# Altium footprint library MOTHERBOARD.PcbLib: 73 footprints (part 4 of 5)
Each footprint in its own frame and in the unit in brackets; x right, y up, seen from the top. Pads: shape width x height; smd on the part's side, far side on the other; paste and mask are expansions set on the pad; w line width, h text height; cw(c..) or ccw(c..) is an arc to the next point about the centre after c.
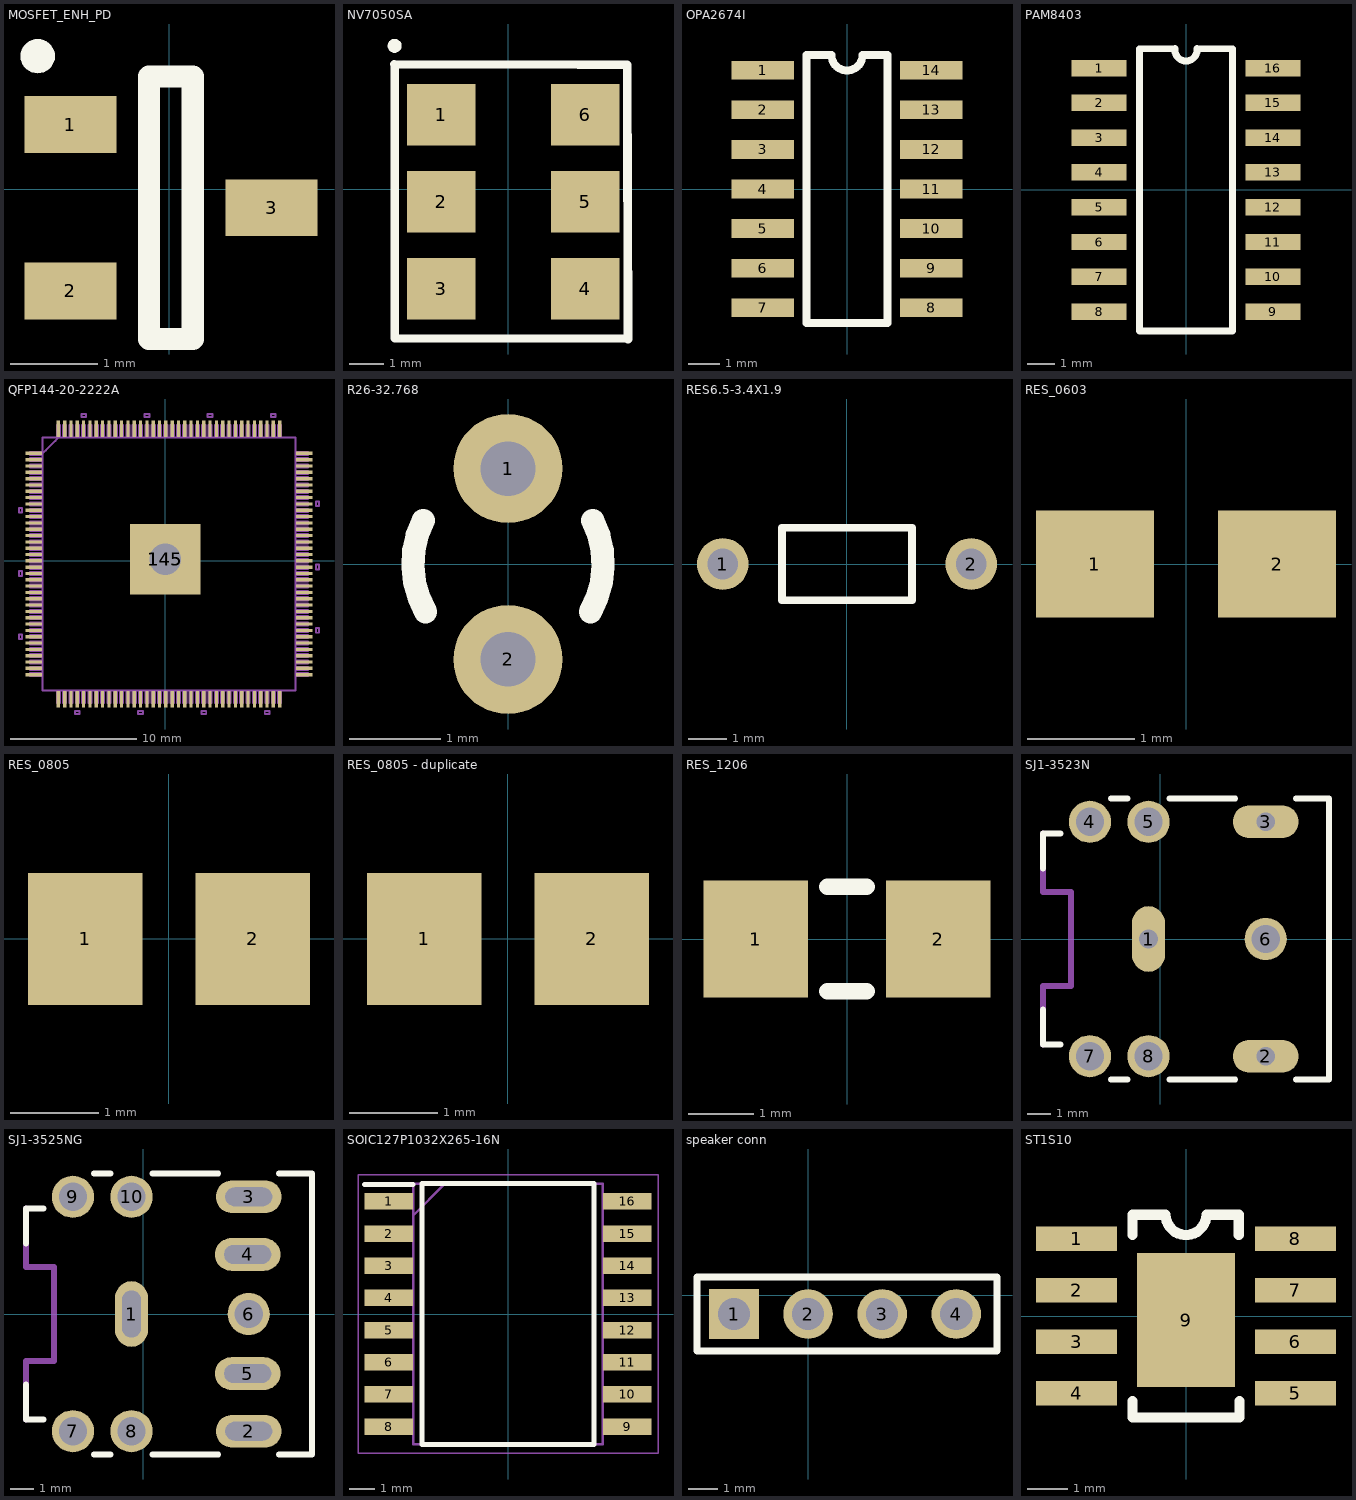
[diagram p3: the footprints below, top view; thin cyan lines are the x and y axes]

## MOSFET_ENH_PD [mm]
pads (3):
  rect 1.05x0.65 smd: 1(-1.128,0.735) 2(-1.128,-1.165) 3(1.172,-0.215)
Top Overlay:
  region: -1.305,1.519 -1.308,1.553 -1.317,1.586 -1.332,1.617 -1.351,1.645 -1.375,1.669 -1.403,1.688 -1.434,1.703 -1.467,1.712 -1.501,1.715 -1.535,1.712 -1.568,1.703 -1.599,1.688 -1.627,1.669 -1.651,1.645 -1.671,1.617 -1.685,1.586 -1.694,1.553 -1.697,1.519 -1.694,1.485 -1.685,1.452 -1.671,1.421 -1.651,1.393 -1.627,1.369 -1.599,1.349 -1.568,1.335 -1.535,1.326 -1.501,1.323 -1.467,1.326 -1.434,1.335 -1.403,1.349 -1.375,1.369 -1.351,1.393 -1.332,1.421 -1.317,1.452 -1.308,1.485
  lines w0.254: -0.228,-1.715 -0.228,1.285 0.272,1.285 0.272,-1.715 -0.228,-1.715

## NV7050SA [mm]
pads (6):
  rect 2x1.8 smd: 1(-1.948,2.17) 2(-1.948,-0.37) 3(-1.948,-2.91) 4(2.252,-2.91) 5(2.252,-0.37) 6(2.252,2.17)
Top Overlay:
  region: -3.112,4.18 -3.115,4.215 -3.124,4.248 -3.139,4.28 -3.159,4.309 -3.183,4.333 -3.212,4.353 -3.244,4.368 -3.277,4.377 -3.312,4.38 -3.347,4.377 -3.381,4.368 -3.412,4.353 -3.441,4.333 -3.465,4.309 -3.485,4.28 -3.5,4.248 -3.509,4.215 -3.512,4.18 -3.509,4.145 -3.5,4.111 -3.485,4.08 -3.465,4.051 -3.441,4.026 -3.412,4.006 -3.381,3.992 -3.347,3.983 -3.312,3.98 -3.277,3.983 -3.244,3.992 -3.212,4.006 -3.183,4.026 -3.159,4.051 -3.139,4.08 -3.124,4.111 -3.115,4.145
  lines w0.254: -3.318,3.64 2.055,3.63 3.482,3.63 ; -3.308,-4.33 -3.308,3.62 ; -3.297,-4.36 3.512,-4.37 ; 3.482,3.61 3.502,-4.38

## OPA2674I [mm]
pads (14):
  rect 2x0.6 smd: 1(-2.7,3.81) 2(-2.7,2.54) 3(-2.7,1.27) 4(-2.7,0) 5(-2.7,-1.27) 6(-2.7,-2.54) 7(-2.7,-3.81) 8(2.7,-3.81) 9(2.7,-2.54) 10(2.7,-1.27) 11(2.7,0) 12(2.7,1.27) 13(2.7,2.54) 14(2.7,3.81)
Top Overlay:
  lines w0.254: -1.3,-4.3 -1.3,4.3 -0.5,4.3 ccw(c0,4.3) 0.5,4.3 1.3,4.3 1.3,-4.3 -1.3,-4.3

## PAM8403 [mm]
pads (16):
  rect 2x0.6 smd: 1(-3.175,4.445) 2(-3.175,3.175) 3(-3.175,1.905) 4(-3.175,0.635) 5(-3.175,-0.635) 6(-3.175,-1.905) 7(-3.175,-3.175) 8(-3.175,-4.445) 9(3.175,-4.445) 10(3.175,-3.175) 11(3.175,-1.905) 12(3.175,-0.635) 13(3.175,0.635) 14(3.175,1.905) 15(3.175,3.175) 16(3.175,4.445)
Top Overlay:
  lines w0.254: -0.4,5.15 -1.7,5.15 -1.7,-5.15 1.7,-5.15 1.7,5.15 0.4,5.15 ; -0.4,5.152 ccw(c0,5.103) 0.4,5.152

## QFP144-20-2222A [mil]
pads (146):
  rect 52x10 smd: 1(-409.45,334.64) 2(-409.45,314.96) 3(-409.45,295.27) 4(-409.45,275.59) 5(-409.45,255.9) 6(-409.45,236.22) 7(-409.45,216.53) 8(-409.45,196.85) 9(-409.45,177.16) 10(-409.45,157.48) 11(-409.45,137.8) 12(-409.45,118.11) 13(-409.45,98.43) 14(-409.45,78.74) 15(-409.45,59.06) 16(-409.45,39.37) 17(-409.45,19.69) 18(-409.45,0) 19(-409.45,-19.68) 20(-409.45,-39.37) 21(-409.45,-59.06) 22(-409.45,-78.74) 23(-409.45,-98.43) 24(-409.45,-118.11) 25(-409.45,-137.8) 26(-409.45,-157.48) 27(-409.45,-177.17) 28(-409.45,-196.85) 29(-409.45,-216.54) 30(-409.45,-236.22) 31(-409.45,-255.91) 32(-409.45,-275.59) 33(-409.45,-295.28) 34(-409.45,-314.96) 35(-409.45,-334.65) 36(-409.45,-354.33) 73(433.07,-354.33) 74(433.07,-334.65) 75(433.07,-314.96) 76(433.07,-295.28) 77(433.07,-275.59) 78(433.07,-255.91) 79(433.07,-236.22) 80(433.07,-216.54) 81(433.07,-196.85) 82(433.07,-177.17) 83(433.07,-157.48) 84(433.07,-137.8) 85(433.07,-118.11) 86(433.07,-98.43) 87(433.07,-78.74) 88(433.07,-59.06) 89(433.07,-39.37) 90(433.07,-19.68) 91(433.07,0) 92(433.07,19.69) 93(433.07,39.37) 94(433.07,59.06) 95(433.07,78.74) 96(433.07,98.43) 97(433.07,118.11) 98(433.07,137.8) 99(433.07,157.48) 100(433.07,177.16) 101(433.07,196.85) 102(433.07,216.53) 103(433.07,236.22) 104(433.07,255.9) 105(433.07,275.59) 106(433.07,295.27) 107(433.07,314.96) 108(433.07,334.64)
  rect 10x52 smd: 37(-332.68,-431.1) 38(-312.99,-431.1) 39(-293.31,-431.1) 40(-273.62,-431.1) 41(-253.94,-431.1) 42(-234.25,-431.1) 43(-214.57,-431.1) 44(-194.88,-431.1) 45(-175.2,-431.1) 46(-155.51,-431.1) 47(-135.83,-431.1) 48(-116.14,-431.1) 49(-96.46,-431.1) 50(-76.77,-431.1) 51(-57.09,-431.1) 52(-37.4,-431.1) 53(-17.72,-431.1) 54(1.97,-431.1) 55(21.65,-431.1) 56(41.34,-431.1) 57(61.02,-431.1) 58(80.71,-431.1) 59(100.39,-431.1) 60(120.08,-431.1) 61(139.76,-431.1) 62(159.45,-431.1) 63(179.13,-431.1) 64(198.82,-431.1) 65(218.5,-431.1) 66(238.19,-431.1) 67(257.87,-431.1) 68(277.56,-431.1) 69(297.24,-431.1) 70(316.93,-431.1) 71(336.61,-431.1) 72(356.3,-431.1) 109(356.3,411.42) 110(336.61,411.42) 111(316.93,411.42) 112(297.24,411.42) 113(277.56,411.42) 114(257.87,411.42) 115(238.19,411.42) 116(218.5,411.42) 117(198.82,411.42) 118(179.13,411.42) 119(159.45,411.42) 120(139.76,411.42) 121(120.08,411.42) 122(100.39,411.42) 123(80.71,411.42) 124(61.02,411.42) 125(41.34,411.42) 126(21.65,411.42) 127(1.97,411.42) 128(-17.72,411.42) 129(-37.4,411.42) 130(-57.09,411.42) 131(-76.77,411.42) 132(-96.46,411.42) 133(-116.14,411.42) 134(-135.83,411.42) 135(-155.51,411.42) 136(-175.2,411.42) 137(-194.88,411.42) 138(-214.57,411.42) 139(-234.25,411.42) 140(-253.94,411.42) 141(-273.62,411.42) 142(-293.31,411.42) 143(-312.99,411.42) 144(-332.68,411.42)
  rect 220x220 smd: 145(0,5)
  round 157.48 hole 98.43: 145(0,5)
Mechanical 15:
  drawing of 648 lines, arcs and shapes, not listed
  text "*" at -483.19,384.16 h50
  text "*" at -483.19,384.16 h50

## R26-32.768 [mm]
pads (2):
  round 1.2 hole 0.6: 1(0,1.05) 2(0,-1.05)
Top Overlay:
  lines w0.254: -0.932,0.478 ccw(c0.005,0) -0.906,-0.526 ; 0.906,-0.526 ccw(c-0.005,0) 0.932,0.478

## RES6.5-3.4X1.9 [mm] "Resistor, Axial; Body 3.4 x 1.9 mm (LxDia. max), Lead Dia. 0.5 mm (max)"
height 1.9
pads (2):
  round 1.35 hole 0.8: 1(-3.25,0) 2(3.25,0)
Top Overlay:
  lines w0.2: -1.7,-0.95 1.7,-0.95 1.7,0.95 -1.7,0.95 -1.7,-0.95

## RES_0603 [mm]
pads (2):
  rect 1.1x1 smd: 1(-0.85,0) 2(0.85,0)

## RES_0805 [mm]
pads (2):
  rect 1.3x1.5 smd: 1(-0.95,0) 2(0.95,0)

## RES_0805 - duplicate [mm]
pads (2):
  rect 1.3x1.5 smd: 1(-0.95,0) 2(0.95,0)

## RES_1206 [mm]
pads (2):
  rect 1.6x1.8 smd: 1(-1.4,0) 2(1.4,0)
Top Overlay:
  lines w0.254: -0.299,-0.799 0.299,-0.799 ; -0.299,0.799 0.299,0.799

## SJ1-3523N [mm]
pads (8):
  oval 1.4x2.8 hole 0.8: 1(-0.511,0)
  oval 2.8x1.4 hole 0.8: 2(4.489,-5) 3(4.489,5)
  round 1.8 hole 1.2: 4(-3.011,5) 5(-0.511,5) 6(4.489,0) 7(-3.011,-5) 8(-0.511,-5)
Top Overlay:
  lines w0.254: -5.012,-3 -5.012,-4.5 -4.261,-4.5 ; -5.012,3 -5.012,4.5 -4.261,4.5 ; -2.112,-6 -1.412,-6 ; -2.112,6 -1.412,6 ; 0.388,-6 3.189,-6 ; 0.388,6 3.189,6 ; 5.788,-6 7.188,-6 7.188,6 5.788,6
Mechanical 1:
  lines w0.254: -5.012,-4.5 -5.012,-2 -3.811,-2 -3.811,2 -5.012,2 -5.012,4.5
  text "EDGE" at -7.176,4.256 h0.42
  text "BOARD" at -6.334,4.423 h0.42
  text "EDGE" at -7.176,-2.244 h0.42
  text "BOARD" at -6.334,-2.077 h0.42

## SJ1-3525NG [mm]
pads (10):
  oval 1.4x2.8 hole 2 slot 0.8 at 0 deg: 1(-0.511,0)
  oval 2.8x1.4 hole 0.8 slot 2 at 0 deg: 2(4.489,-5) 3(4.489,5) 4(4.445,2.54) 5(4.445,-2.54)
  round 1.8 hole 1.2: 6(4.489,0) 7(-3.011,-5) 8(-0.511,-5) 9(-3.011,5) 10(-0.511,5)
Top Overlay:
  lines w0.254: -5.012,-3 -5.012,-4.5 -4.261,-4.5 ; -5.012,3 -5.012,4.5 -4.261,4.5 ; -2.112,-6 -1.412,-6 ; -2.112,6 -1.412,6 ; 0.388,-6 3.189,-6 ; 0.388,6 3.189,6 ; 5.788,-6 7.188,-6 7.188,6 5.788,6
Mechanical 1:
  lines w0.254: -5.012,-4.5 -5.012,-2 -3.811,-2 -3.811,2 -5.012,2 -5.012,4.5
  text "EDGE" at -7.176,4.256 h0.42
  text "BOARD" at -6.334,4.423 h0.42
  text "EDGE" at -7.176,-2.244 h0.42
  text "BOARD" at -6.334,-2.077 h0.42

## SOIC127P1032X265-16N [mm]
pads (16):
  rect 1.925x0.65 smd: 1(-4.712,4.445) 2(-4.712,3.175) 3(-4.712,1.905) 4(-4.712,0.635) 5(-4.712,-0.635) 6(-4.712,-1.905) 7(-4.712,-3.175) 8(-4.712,-4.445) 9(4.712,-4.445) 10(4.712,-3.175) 11(4.712,-1.905) 12(4.712,-0.635) 13(4.712,0.635) 14(4.712,1.905) 15(4.712,3.175) 16(4.712,4.445)
Top Overlay:
  lines w0.2: -5.675,5.12 -3.75,5.12 ; -3.4,-5.15 -3.4,5.15 3.4,5.15 3.4,-5.15 -3.4,-5.15
Mechanical 13:
  lines w0.1: -3.75,3.88 -2.48,5.15 ; -3.75,-5.15 -3.75,5.15 3.75,5.15 3.75,-5.15 -3.75,-5.15
Mechanical 15:
  lines w0.05: -5.925,-5.5 -5.925,5.5 5.925,5.5 5.925,-5.5 -5.925,-5.5
3D body "ADUM4160BRWZ.stp": height 2.65, standoff 0, extent -5.162,-5.15 5.162,5.15

## speaker conn [mm]
pads (4):
  rect 1.7x1.7 hole 1.1: 1(-2.54,-0.635)
  round 1.7 hole 1.1: 2(0,-0.635) 3(2.54,-0.635) 4(5.08,-0.635)
Top Overlay:
  lines w0.254: -3.809,-1.905 6.477,-1.905 6.477,0.635 -3.809,0.635 -3.809,-1.905

## ST1S10 [mm]
pads (9):
  rect 2x0.6 smd: 1(-2.7,1.905) 2(-2.7,0.635) 3(-2.7,-0.635) 4(-2.7,-1.905) 5(2.7,-1.905) 6(2.7,-0.635) 7(2.7,0.635) 8(2.7,1.905)
  rect 2.41x3.3 smd: 9(0,-0.1)
Top Overlay:
  lines w0.254: -1.317,-2.5 -1.317,-2.1 ; -1.317,2 -1.317,2.5 ; -1.302,-2.5 1.302,-2.5 ; -1.302,2.5 -0.503,2.5 ; -0.503,2.503 ccw(c0,2.503) 0.503,2.503 ; 0.503,2.5 1.302,2.5 1.302,2 ; 1.317,-2.5 1.317,-2.1